# Altium schematic symbol library RF1-01A-D-00-75-M.SchLib: 1 symbol
Pins are listed as number, name and electrical type; pins without a type are passive.

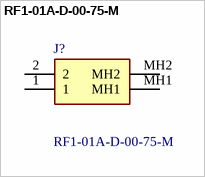
[diagram p0: symbol RF1-01A-D-00-75-M]

## RF1-01A-D-00-75-M
designator J?
BNC R/A LOW PROFILE INSUL PCB SK; Manufacturer_Name: Adam Tech; Geometry.Height: 16.181mm; Manufacturer_Part_Number: RF1-01A-D-00-75-M; Mouser Part Number: *; Mouser Price/Stock: *; Arrow Part Number: *; Arrow Price/Stock: *; Datasheet Link: https://www.mouser.com/datasheet/3/6015/1/rf1_01a_d_00_75_m_data_sheet.pdf
footprint RF101AD0075M
pins: 1, 2, MH1, MH2